# EAGLE library part ATMEGA328P-AU (library koch)
310010049
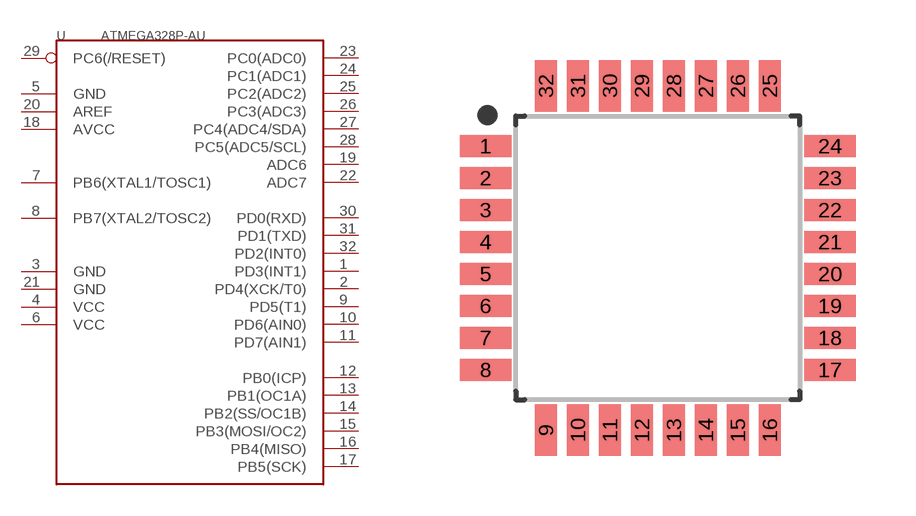
[diagram p1: symbol with the pads of ATMEGA328P-AU; footprint ATMEGA328P-AU]

Designator prefix U

## ATMEGA328P-AU (MPN: ATMEGA328P-AU; VALUE: ATMEGA328P-AU-TQFP32)  [ATMEGA328P-AU]
1  PD3(INT1)
2  PD4(XCK/T0)
3  GND
4  VCC
5  GND
6  VCC
7  PB6(XTAL1/TOSC1)
8  PB7(XTAL2/TOSC2)
9  PD5(T1)
10  PD6(AIN0)
11  PD7(AIN1)
12  PB0(ICP)
13  PB1(OC1A)
14  PB2(SS/OC1B)
15  PB3(MOSI/OC2)
16  PB4(MISO)
17  PB5(SCK)
18  AVCC
19  ADC6
20  AREF
21  GND
22  ADC7
23  PC0(ADC0)
24  PC1(ADC1)
25  PC2(ADC2)
26  PC3(ADC3)
27  PC4(ADC4/SDA)
28  PC5(ADC5/SCL)
29  PC6(/RESET)
30  PD0(RXD)
31  PD1(TXD)
32  PD2(INT0)

## Footprint ATMEGA328P-AU (pad centres in mm)
32-QFP, 0.80 mm pitch, 9.00 mm span, 7.00 X 7.00 X 1.20 mm body 32-pin QFP package with 0.80 mm pitch, 9.00 mm lead span1 X 9.00 mm lead span2 with body size 7.00 X 7.00 X 1.20 mm
smd 1.295 x 0.547: 1 -4.308,2.8; 2 -4.308,2; 3 -4.308,1.2; 4 -4.308,0.4; 5 -4.308,-0.4; 6 -4.308,-1.2; 7 -4.308,-2; 8 -4.308,-2.8; 17 4.308,-2.8; 18 4.308,-2; 19 4.308,-1.2; 20 4.308,-0.4; 21 4.308,0.4; 22 4.308,1.2; 23 4.308,2; 24 4.308,2.8
smd 0.547 x 1.295: 9 -2.8,-4.308; 10 -2,-4.308; 11 -1.2,-4.308; 12 -0.4,-4.308; 13 0.4,-4.308; 14 1.2,-4.308; 15 2,-4.308; 16 2.8,-4.308; 25 2.8,4.308; 26 2,4.308; 27 1.2,4.308; 28 0.4,4.308; 29 -0.4,4.308; 30 -1.2,4.308; 31 -2,4.308; 32 -2.8,4.308